# EAGLE library part INA219 (library kiks-ic)
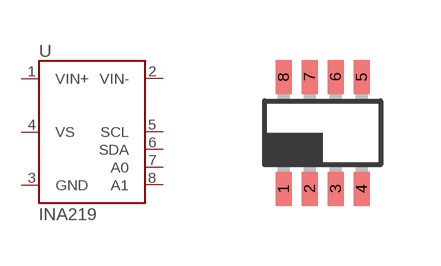
[diagram p13: symbol with the pads of SOT23-8; footprint SOT23-8]

Designator prefix U

## INA219  [SOT23-8]
1  VIN+  in
2  VIN-  in
3  GND  in
4  VS  in
5  SCL
6  SDA
7  A0  in
8  A1  in

## Footprint SOT23-8 (pad centres in mm)
smd 0.4 x 0.85: 1 -0.975,-1.4; 2 -0.325,-1.4; 3 0.325,-1.4; 4 0.975,-1.4; 5 0.975,1.4; 6 0.325,1.4; 7 -0.325,1.4; 8 -0.975,1.4